# EAGLE library part ?M05B-SR (library con-jst)
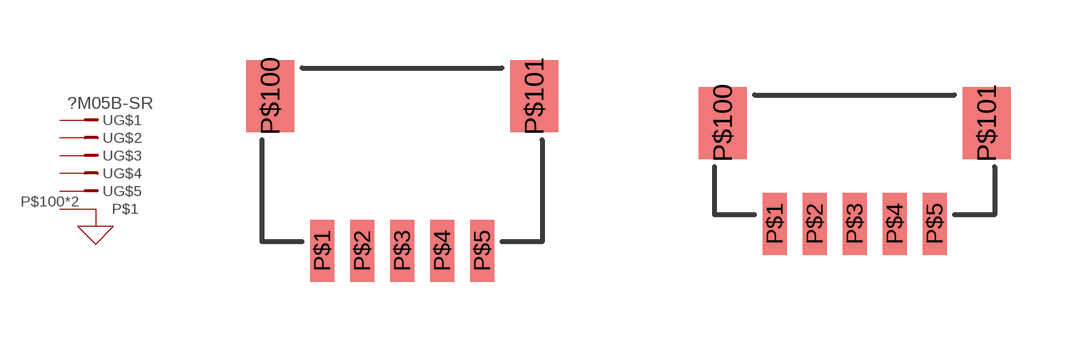
[diagram p24: symbol with the pads of SM05B-SR; footprints SM05B-SR, BM05B-SR]

Designator prefix -; gates G$1=PM-VN G$2=PM-N G$3=PM-N G$4=PM-N G$5=PM-N G$6=FRAME

## SM05B-SR  [SM05B-SR]
P$1  G$1:1  pas
P$2  G$2:1  pas
P$3  G$3:1  pas
P$4  G$4:1  pas
P$5  G$5:1  pas
P$100  G$6:P$1
P$101  G$6:P$1

## BM05B-SR  [BM05B-SR]
Pads as for SM05B-SR

## Footprint SM05B-SR (pad centres in mm)
smd 0.6 x 1.55: P$1 -2,-4.775; P$2 -1,-4.775; P$3 0,-4.775; P$4 1,-4.775; P$5 2,-4.775
smd 1.2 x 1.8: P$100 -3.3,-0.9; P$101 3.3,-0.9

## Footprint BM05B-SR (pad centres in mm)
smd 0.6 x 1.55: P$1 -2,-3.425; P$2 -1,-3.425; P$3 0,-3.425; P$4 1,-3.425; P$5 2,-3.425
smd 1.2 x 1.8: P$100 -3.3,-0.9; P$101 3.3,-0.9